# Altium schematic symbol library Net_Tie_Sch.SchLib: 1 symbol
Pins are listed as number, name and electrical type; pins without a type are passive.

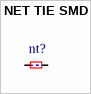
[diagram p0: symbol NET TIE SMD]

## NET TIE SMD
designator nt?  (net tie, no BOM)
footprint 0.3mm
pins: 1, 2